# Altium schematic symbol library SCH - LOGIC - SN74LVC1G332DCKR.SchLib: 1 symbol
Pins are listed as number, name and electrical type; pins without a type are passive.

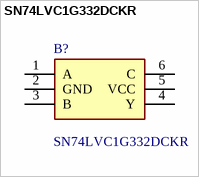
[diagram p0: symbol SN74LVC1G332DCKR]

## SN74LVC1G332DCKR
designator B?
Single 3-Input Positive-OR Gate; Manufacturer_Name: Texas Instruments; Geometry.Height: 1.1mm; Mouser Part Number: 595-SN74LVC1G332DCKR; Mouser Price/Stock: https://www.mouser.co.uk/ProductDetail/Texas-Instruments/SN74LVC1G332DCKR?qs=nqigI8dpoHJbC41czqKUfw%3D%3D; Manufacturer_Part_Number: SN74LVC1G332DCKR; Datasheet Link: http://www.ti.com/lit/gpn/sn74lvc1g332
footprint SOT65P210X110-6N
pins: 1 A, 2 GND, 3 B, 4 Y, 5 VCC, 6 C